# Altium footprint library pinheader_P12R2.PcbLib: 1 footprints
Each footprint in its own frame and in the unit in brackets; x right, y up, seen from the top. Pads: shape width x height; smd on the part's side, far side on the other; paste and mask are expansions set on the pad; w line width, h text height; cw(c..) or ccw(c..) is an arc to the next point about the centre after c.
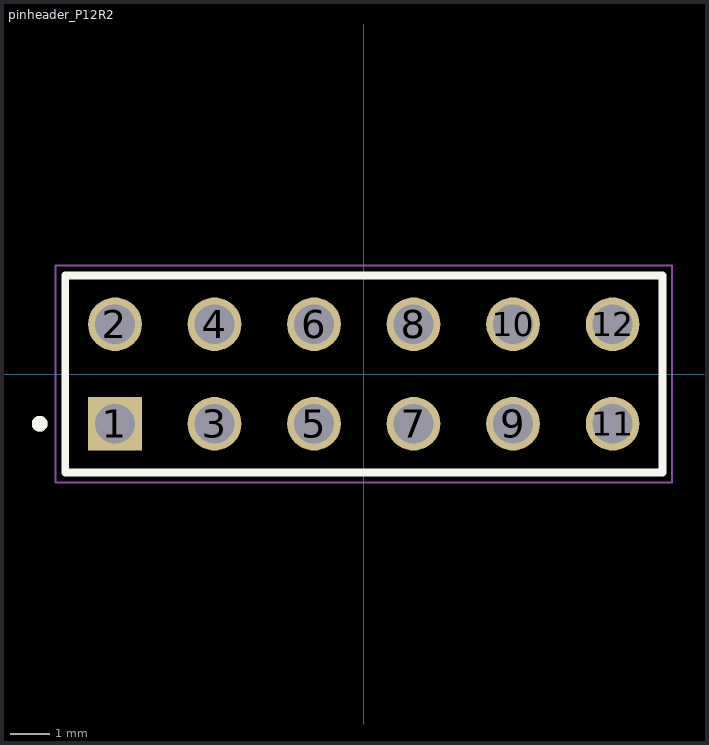
[diagram p0: the footprint, top view; thin cyan lines are the x and y axes]

## pinheader_P12R2 [mm]
pads (12):
  rect 1.37x1.37 hole 1.02: 1(-6.35,-1.27)
  round 1.37 hole 1.02: 2(-6.35,1.27) 3(-3.81,-1.27) 4(-3.81,1.27) 5(-1.27,-1.27) 6(-1.27,1.27) 7(1.27,-1.27) 8(1.27,1.27) 9(3.81,-1.27) 10(3.81,1.27) 11(6.35,-1.27) 12(6.35,1.27)
Top Overlay:
  circle w0.2: c-8.27,-1.27 r0.1
  lines w0.2: -7.62,-2.515 -7.62,2.515 7.62,2.515 7.62,-2.515 -7.62,-2.515
Mechanical 13:
  circle w0.2: c-8.27,-1.27 r0.1
  lines w0.1: -7.62,-2.515 -7.62,2.515 7.62,2.515 7.62,-2.515 -7.62,-2.515
Mechanical 15:
  lines w0.05: -7.87,-2.765 -7.87,2.765 7.87,2.765 7.87,-2.765 -7.87,-2.765
3D body "HTSW-106-07-G-D-012.stp": height 8.38, standoff -2.54, extent -7.62,-2.515 7.62,2.515